# Altium schematic symbol library MSP430_GPRS.SchLib: 1 symbol
Pins are listed as number, name and electrical type; pins without a type are passive.

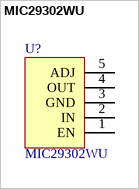
[diagram p0: symbol MIC29302WU]

## MIC29302WU
designator U?
2A,  adjustable LDO
footprint TO263-5 MIC29302WU
pins: 1 EN, 2 IN, 3 GND, 4 OUT, 5 ADJ